# Altium footprint library XAL7030-272MEB.PcbLib: 3 footprints
Each footprint in its own frame and in the unit in brackets; x right, y up, seen from the top. Pads: shape width x height; smd on the part's side, far side on the other; paste and mask are expansions set on the pad; w line width, h text height; cw(c..) or ccw(c..) is an arc to the next point about the centre after c.
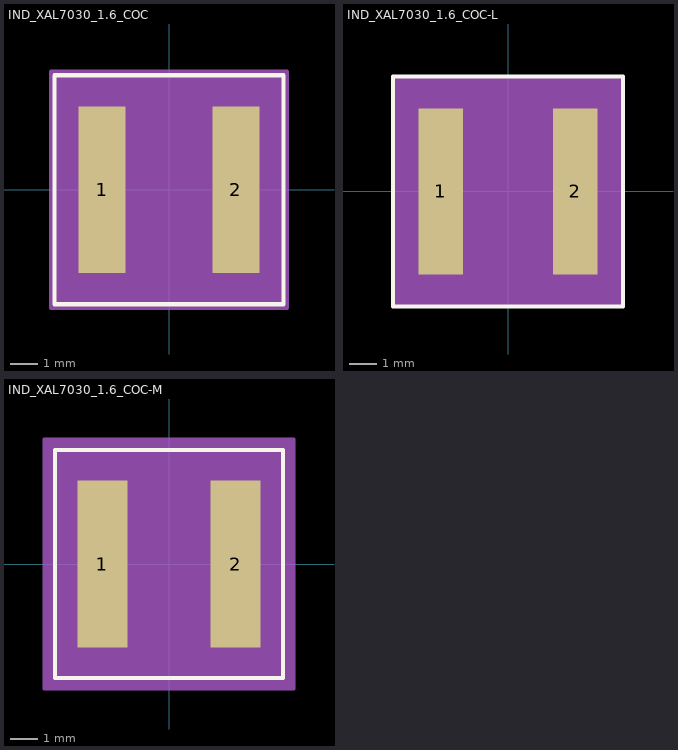
[diagram p0: the footprints below, top view; thin cyan lines are the x and y axes]

## IND_XAL7030_1.6_COC [mil]
pads (2):
  rect 67x236 smd paste+0 mask+0: 1(-95,0) 2(95,0)
Top Overlay:
  lines w6: -162.5,-162.5 -162.5,162.5 162.5,162.5 162.5,-162.5 -162.5,-162.5
Mechanical 13:
  circle w0: c-61.5,0 r3
  lines w0: -12,157.5 ccw(c0,157.5) 12,157.5
  lines w1: -157.5,-157.5 -157.5,157.5 157.5,157.5 157.5,-157.5 -157.5,-157.5
Mechanical 15:
  region: -167.5,-128 -167.5,128 -167.5,167.5 167.5,167.5 167.5,128 167.5,-128 167.5,-167.5 -167.5,-167.5
  lines w6: -167.5,-167.5 167.5,-167.5 167.5,-128 167.5,128 167.5,167.5 -167.5,167.5 -167.5,128 -167.5,-128 -167.5,-167.5
3D body "IND_XAL7030_16_COC.step": height 122.09, standoff 0, extent -157.48,-157.48 157.48,157.48

## IND_XAL7030_1.6_COC-L [mil]
pads (2):
  rect 63x234 smd paste+0 mask+0: 1(-95,0) 2(95,0)
Top Overlay:
  lines w6: -162.5,-162.5 -162.5,162.5 162.5,162.5 162.5,-162.5 -162.5,-162.5
Mechanical 13:
  circle w0: c-63.5,0 r3
  lines w0: -12,157.5 ccw(c0,157.5) 12,157.5
  lines w1: -157.5,-157.5 -157.5,157.5 157.5,157.5 157.5,-157.5 -157.5,-157.5
Mechanical 15:
  region: -161.5,-121 -161.5,121 -161.5,161.5 161.5,161.5 161.5,121 161.5,-121 161.5,-161.5 -161.5,-161.5
  lines w6: -161.5,-161.5 161.5,-161.5 161.5,-121 161.5,121 161.5,161.5 -161.5,161.5 -161.5,121 -161.5,-121 -161.5,-161.5
3D body: height 10, standoff 0, extent 0,0 10,10

## IND_XAL7030_1.6_COC-M [mil]
pads (2):
  rect 71x238 smd paste+0 mask+0: 1(-95,0) 2(95,0)
Top Overlay:
  lines w6: -162.5,-162.5 162.5,-162.5 162.5,162.5 -162.5,162.5 -162.5,-162.5
Mechanical 13:
  circle w0: c-59.5,0 r3
  lines w0: -12,157.5 ccw(c0,157.5) 12,157.5
  lines w1: -157.5,-157.5 157.5,-157.5 157.5,157.5 -157.5,157.5 -157.5,-157.5
Mechanical 15:
  region: -177.5,-139 -177.5,139 -177.5,177.5 177.5,177.5 177.5,139 177.5,-139 177.5,-177.5 -177.5,-177.5
  lines w6: -177.5,-177.5 -177.5,-139 -177.5,139 -177.5,177.5 177.5,177.5 177.5,139 177.5,-139 177.5,-177.5 -177.5,-177.5
3D body: height 10, standoff 0, extent 0,0 10,10